# Altium schematic symbol library TLP81.SchLib: 1 symbol
Pins are listed as number, name and electrical type; pins without a type are passive.

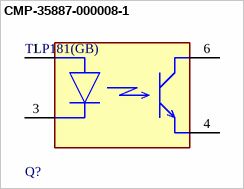
[diagram p0: symbol CMP-35887-000008-1]

## CMP-35887-000008-1
designator Q?, comment TLP181(GB)
OPTOCOUPLER TRANS 3.75KVRMS 6SO; Manufacturer: Toshiba; Collector Emitter Voltage: 80V; Min Current Transfer Ratio: 100%; Max Junction Temp: +125°C; Power Dissipation: 200mW; Max Current Transfer Ratio: 600%; Max Supply Voltage: 48V; Forward Voltage: 1.15V; Turn On Delay Time: 3us; Isolation Voltage: 3750Vrms; Reverse Voltage: 5V; Forward Current: 10mA; Emiiter Collector Voltage: 7V; Standoff Height: 0.1mm; Footprint Url: https://toshiba.semicon-storage.com/eu/design-support/package/detail.4pin%20MFSOP6.html; Device Class L3: unset; ComponentLink2Description: Datasheet; Device Class L1: Optoelectronics; Temperature: -55°C to +110°C; Temperature Range High: +110°C; Automotive: No; Octopart: https://octopart.com/tlp181gb-toshiba-8180795; ComponentLink2URL: https://toshiba.semicon-storage.com/info/docget.jsp?did=16749&prodName=TLP181; Category: Trans; Package: 11-4C1; Turn Off Delay Time: 3us; Temperature Range Low: -55°C; Device Class L2: Optocouplers; RoHS: TRUE; Lead Free: Yes; Ipc Land Pattern Name: SOP254P700X260-4; Manufacturer Part Number: TLP181(GB); Height: 2.8mm
footprint FP-11-4C1-MFG
footprint FP-11-4C1-IPC_A
footprint FP-11-4C1-IPC_C
footprint FP-11-4C1-IPC_B
pins: 1 A, 3 C, 4 E, 6 C